# EAGLE library part LORA-RA02 (library LARS_409_MK)
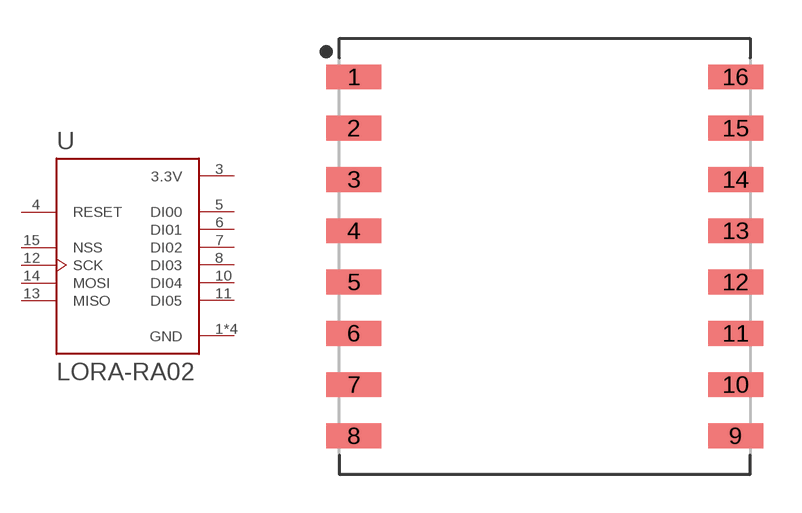
[diagram p4: symbol with the pads of LORA_RA-02; footprint LORA_RA-02]

Designator prefix U

## LORA-RA02  [LORA_RA-02]
1  GND  pwr
2  GND  pwr
3  3.3V  pwr
4  RESET  in
5  DI00
6  DI01
7  DI02
8  DI03
9  GND  pwr
10  DI04
11  DI05
12  SCK  in
13  MISO  out
14  MOSI  in
15  NSS  in
16  GND  pwr

## Footprint LORA_RA-02 (pad centres in mm)
16-Chiparray 2-Side Flat, 2.00 mm pitch, 17.00 X 16.00 X 3.10 mm body 16-pin Chiparray 2-Side Flat package with 2.00 mm pitch with body size 17.00 X 16.00 X 3.10 mm
smd 2.142 x 0.972: 1 -7.435,7; 2 -7.435,5; 3 -7.435,3; 4 -7.435,1; 5 -7.435,-1; 6 -7.435,-3; 7 -7.435,-5; 8 -7.435,-7; 9 7.435,-7; 10 7.435,-5; 11 7.435,-3; 12 7.435,-1; 13 7.435,1; 14 7.435,3; 15 7.435,5; 16 7.435,7